# EAGLE library part SD_CARD (library tbsliver-con-memory)
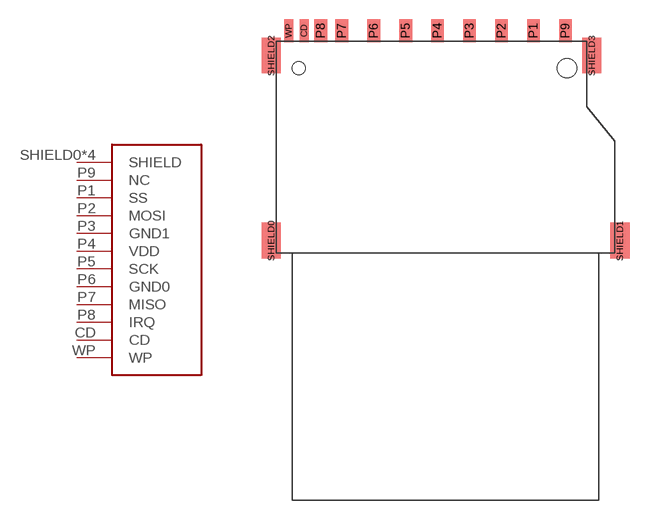
[diagram p0: symbol with the pads of MEM1055; footprint MEM1055]

Designator prefix -

## SD_CARD  [MEM1055]
CD  CD
P1  SS
P2  MOSI
P3  GND1
P4  VDD
P5  SCK
P6  GND0
P7  MISO
P8  IRQ
P9  NC
SHIELD0  SHIELD
SHIELD1  SHIELD
SHIELD2  SHIELD
SHIELD3  SHIELD
WP  WP

## Footprint MEM1055 (pad centres in mm)
smd 0.7 x 1.8: CD -11.07,16.45; WP -12.27,16.45
smd 1 x 1.8: P1 6.88,16.45; P2 4.38,16.45; P3 1.88,16.45; P4 -0.63,16.45; P5 -3.12,16.45; P6 -5.62,16.45; P7 -8.12,16.45; P8 -9.77,16.45; P9 9.38,16.45
smd 1.5 x 2.8: SHIELD0 -13.65,0; SHIELD1 13.65,0; SHIELD2 -13.65,14.5; SHIELD3 11.45,14.5
hole 1 at -11.5,13.5
hole 1.5 at 9.5,13.5